# Altium schematic symbol library 219-2MST.SchLib: 1 symbol
Pins are listed as number, name and electrical type; pins without a type are passive.

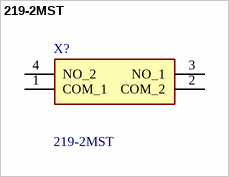
[diagram p0: symbol 219-2MST]

## 219-2MST
designator X?
2 Way Surface Mount DIP Switch Single Pole Single Throw (SPST); Manufacturer_Name: CTS; Geometry.Height: 3.85mm; Manufacturer_Part_Number: 219-2MST; Mouser Part Number: 774-2192MST; Mouser Price/Stock: https://www.mouser.co.uk/ProductDetail/CTS-Electronic-Components/219-2MST?qs=qNzHFtQhdJ%2Fo21NPrPz09Q%3D%3D; Arrow Part Number: 219-2MST; Arrow Price/Stock: https://www.arrow.com/en/products/219-2mst/cts; Datasheet Link: https://www.ctscorp.com/wp-content/uploads/219.pdf
footprint 2192MST
pins: 1 COM_1, 2 COM_2, 3 NO_1, 4 NO_2